# Altium schematic symbol library Schlib1.SchLib: 7 symbols
Pins are listed as number, name and electrical type; pins without a type are passive.

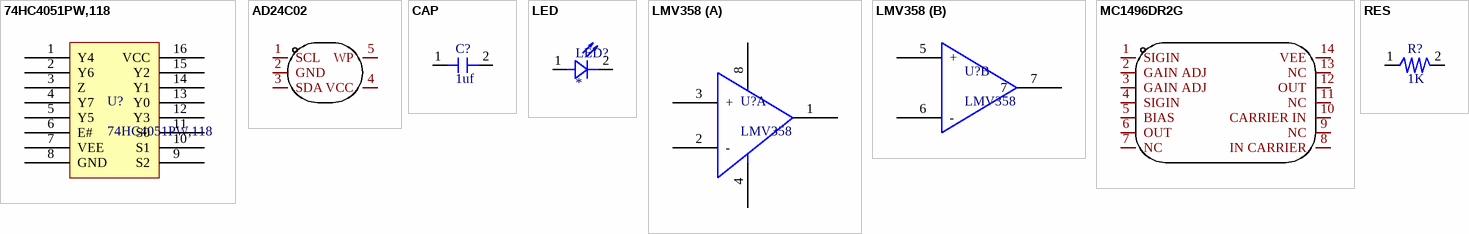
[diagram p0: symbols 74HC4051PW,118 to RES]

## 74HC4051PW,118
designator U?
pins: 1 Y4, 2 Y6, 3 Z, 4 Y7, 5 Y5, 6 E#, 7 VEE, 8 GND, 9 S2, 10 S1, 11 S0, 12 Y3, 13 Y0, 14 Y1, 15 Y2, 16 VCC

## AD24C02
designator ?  (value not drawn)
Manufacturer: IDCHIP(英锐芯); Designer: U?; Symbol: AD24C02; Device: AD24C02; Supplier: LCSC; Supplier Part: C5125083; Manufacturer Part: AD24C02; JLCPCB Part Class: Extended Part
footprint SOT-23-5_L2.9-W1.6-P0.95-LS2.8-BL
pins: 1 SCL, 2 GND, 3 SDA, 4 VCC, 5 WP

## CAP
designator C?, comment 1uf
pins: 1, 2

## LED
designator LED?
pins: 1 2, 2

## LMV358
designator U?
part A pins: 1, 2 -, 3 +, 4, 8
part B pins: 5 +, 6 -, 7

## MC1496DR2G
designator ?  (value not drawn)
Manufacturer: onsemi(安森美); Designer: U?; Symbol: MC1496DR2G; Device: MC1496DR2G; Supplier: LCSC; Manufacturer Part: MC1496DR2G; Supplier Part: C7295; JLCPCB Part Class: Extended Part
footprint SOIC-14_L8.7-W3.9-P1.27-LS6.0-BL
pins: 1 SIGIN, 2 GAIN ADJ, 3 GAIN ADJ, 4 SIGIN, 5 BIAS, 6 OUT, 7 NC, 8 IN CARRIER, 9 NC, 10 CARRIER IN, 11 NC, 12 OUT, 13 NC, 14 VEE

## RES
designator R?, comment 1K
pins: 1, 2 0